# Altium footprint library PCB_motor_driver_v3.PcbLib: 20 footprints (part 1 of 2)
Each footprint in its own frame and in the unit in brackets; x right, y up, seen from the top. Pads: shape width x height; smd on the part's side, far side on the other; paste and mask are expansions set on the pad; w line width, h text height; cw(c..) or ccw(c..) is an arc to the next point about the centre after c.
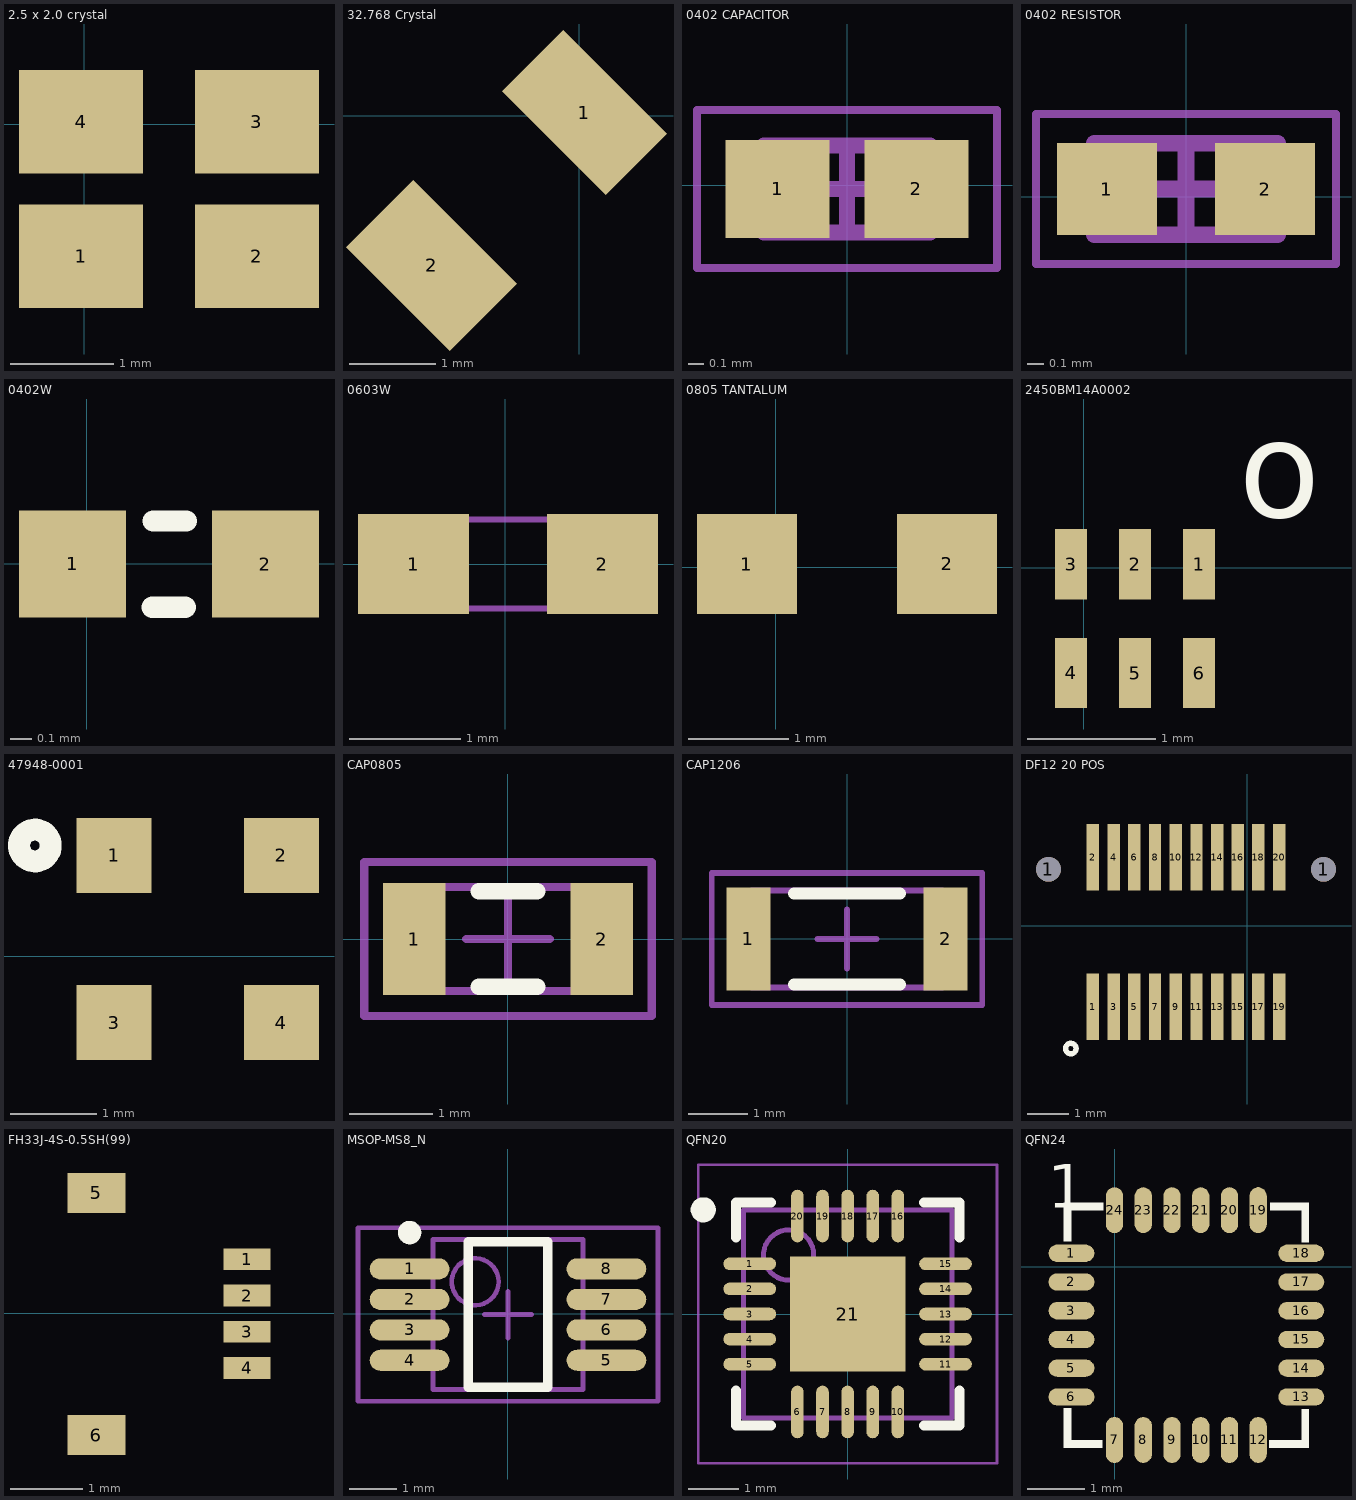
[diagram p0: the footprints below, top view; thin cyan lines are the x and y axes]

## 2.5 x 2.0 crystal [mm]
pads (4):
  rect 1.2x1 smd: 1(-0.033,-1.273) 2(1.667,-1.273) 3(1.667,0.026) 4(-0.033,0.025)
3D body: height 0.5, standoff 0, extent -0.458,-1.621 2.045,0.375

## 32.768 Crystal [mm]
pads (2):
  rect 1x1.7 smd rot 45: 1(0.063,0.036)
  rect 1.1x1.7 smd rot 45: 2(-1.705,-1.733)
3D body: height 0.9, standoff 0, extent -2.493,-2.544 0.83,0.779

## 0402 CAPACITOR [mm]
pads (2):
  rect 0.66x0.62 smd: 1(-0.441,-0.024) 2(0.439,-0.024)
Mechanical 13:
  lines w0.1: -0.526,-0.299 -0.526,0.251 0.524,0.251 0.524,-0.299 -0.526,-0.299
Mechanical 15:
  lines w0.05: -0.951,-0.524 -0.951,0.476 0.949,0.476 0.949,-0.524 -0.951,-0.524
  lines w0.1: -0.276,-0.024 0.274,-0.024 ; -0.001,-0.299 -0.001,0.251
3D body "0402 CAPACITOR.step": height 0.55, standoff 0, extent -0.526,-0.299 0.524,0.251

## 0402 RESISTOR [mm]
pads (2):
  rect 0.6x0.55 smd: 1(-0.476,0.046) 2(0.474,0.046)
Mechanical 13:
  lines w0.1: -0.551,-0.229 0.549,-0.229 0.549,0.321 -0.551,0.321 -0.551,-0.229
Mechanical 15:
  lines w0.05: -0.901,-0.404 0.899,-0.404 0.899,0.496 -0.901,0.496 -0.901,-0.404
  lines w0.1: -0.276,0.046 0.274,0.046 ; -0.001,-0.229 -0.001,0.321
3D body "0402 RESISTOR.step": height 0.4, standoff 0, extent -0.551,-0.229 0.549,0.321

## 0402W [mm]
pads (2):
  rect 0.5x0.5 smd: 1(-0.066,0) 2(0.834,-0.001)
Top Overlay:
  lines w0.1: 0.306,-0.203 0.461,-0.203 ; 0.31,0.2 0.464,0.2
3D body: height 0.2, standoff 0, extent -0.084,-0.25 0.85,0.249

## 0603W [mm]
pads (2):
  rect 1x0.9 smd: 1(-0.825,0) 2(0.875,0)
Mechanical 13:
  lines w0.051: -0.775,-0.4 -0.775,0.4 0.825,0.4 0.825,-0.4 -0.775,-0.4
3D body: height 0.8, standoff 0, extent -0.775,-0.4 0.825,0.4

## 0805 TANTALUM [mm]
pads (2):
  rect 1x1 smd: 1(-0.285,0.032) 2(1.716,0.032)
3D body: height 1.5, standoff 0, extent -0.284,-0.66 1.718,0.693

## 2450BM14A0002 [mm]
pads (6):
  rect 0.25x0.55 smd: 1(0.901,0.027) 2(0.401,0.027) 3(-0.1,0.028) 4(-0.1,-0.822) 5(0.401,-0.823) 6(0.901,-0.823)
Top Overlay:
  text "o" at 1.208,0.395 h0.76
3D body: height 0.6, standoff 0, extent -0.391,-0.783 1.209,0.019

## 47948-0001 [mm]
pads (4):
  rect 0.87x0.87 smd: 1(1.84,1.168) 2(3.78,1.168) 3(1.84,-0.772) 4(3.78,-0.772)
Top Overlay:
  circle w0.254: c0.922,1.282 r0.184
3D body "479480001.stp": height 4, standoff 0, extent 1.235,-1.374 4.375,1.766

## CAP0805 [mm]
pads (2):
  rect 0.75x1.35 smd: 1(-1.125,0) 2(1.125,0)
Top Overlay:
  lines w0.2: -0.35,-0.575 0.35,-0.575 ; -0.35,0.575 0.35,0.575
Mechanical 13:
  lines w0.1: -1.025,-0.625 -1.025,0.625 1.025,0.625 1.025,-0.625 -1.025,-0.625
Mechanical 15:
  lines w0.1: -0.5,0 0.5,0 ; 0,-0.5 0,0.5 ; -1.725,-0.925 -1.725,0.925 1.725,0.925 1.725,-0.925 -1.725,-0.925
3D body "CAP0805.stp": height 0.78, standoff 0, extent -1,-0.625 1,0.625

## CAP1206 [mm]
pads (2):
  rect 0.75x1.75 smd: 1(-1.675,0) 2(1.675,0)
Top Overlay:
  lines w0.2: -0.9,-0.775 0.9,-0.775 ; -0.9,0.775 0.9,0.775
Mechanical 13:
  lines w0.1: -1.625,-0.825 -1.625,0.825 1.625,0.825 1.625,-0.825 -1.625,-0.825
Mechanical 15:
  lines w0.1: -0.5,0 0.5,0 ; 0,-0.5 0,0.5 ; -2.3,-1.125 -2.3,1.125 2.3,1.125 2.3,-1.125 -2.3,-1.125
3D body "CAP1206.stp": height 1, standoff 0, extent -1.6,-0.8 1.6,0.8

## DF12 20 POS [mm]
pads (22):
  round 0.6 hole 0.6: 1(-4.801,1.366) 1(1.836,1.365)
  rect 0.3x1.6 smd mask+0.07: 1(-3.73,-1.947) 2(-3.73,1.653) 3(-3.229,-1.947) 4(-3.229,1.653) 5(-2.729,-1.947) 6(-2.729,1.653) 7(-2.23,-1.947) 8(-2.229,1.653) 9(-1.73,-1.947) 10(-1.73,1.653) 11(-1.23,-1.947) 12(-1.23,1.653) 13(-0.73,-1.947) 14(-0.73,1.653) 15(-0.236,-1.947) 16(-0.236,1.653) 17(0.264,-1.947) 18(0.265,1.653) 19(0.764,-1.947) 20(0.765,1.653)
Top Overlay:
  circle w0.127: c-4.259,-2.958 r0.127
3D body "DF12D(4.0)-20DP.stp": height 3.3, standoff -0.6, extent -5.119,-2.442 2.081,2.157

## FH33J-4S-0.5SH(99) [mm]
pads (6):
  rect 0.65x0.3 smd mask+0.05: 1(-3.141,0.743) 2(-3.141,0.242) 3(-3.141,-0.259) 4(-3.14,-0.758)
  rect 0.8x0.55 smd mask+0.05: 5(-5.223,1.661) 6(-5.224,-1.686)
3D body "FH33-4S-0.5SH.stp": height 1.2, standoff -0.02, extent -6.162,-2.012 -3.162,1.988

## MSOP-MS8_N [mm]
pads (8):
  oval 1.7x0.45 smd: 1(-2.091,0.958) 2(-2.091,0.308) 3(-2.091,-0.342) 4(-2.091,-0.992) 5(2.109,-0.992) 6(2.109,-0.342) 7(2.109,0.308) 8(2.109,0.958)
Top Overlay:
  circle w0.25: c-2.091,1.733 r0.125
  lines w0.2: -0.841,-1.567 -0.841,1.533 0.859,1.533 0.859,-1.567 -0.841,-1.567
Mechanical 13:
  circle w0.1: c-0.691,0.683 r0.5
  lines w0.1: -1.591,-1.617 -1.591,1.583 1.609,1.583 1.609,-1.617 -1.591,-1.617
Mechanical 15:
  lines w0.1: -0.491,-0.017 0.509,-0.017 ; 0.009,-0.517 0.009,0.483 ; -3.191,-1.867 -3.191,1.833 3.209,1.833 3.209,-1.867 -3.191,-1.867
3D body: height 1.1, standoff 0, extent -1.591,-1.617 1.609,1.583

## QFN20 [mm]
pads (21):
  oval 1.05x0.25 smd: 1(-1.95,1) 2(-1.95,0.5) 3(-1.95,0) 4(-1.95,-0.5) 5(-1.95,-1) 11(1.95,-1) 12(1.95,-0.5) 13(1.95,0) 14(1.95,0.5) 15(1.95,1)
  oval 0.25x1.05 smd: 6(-1,-1.95) 7(-0.5,-1.95) 8(0,-1.95) 9(0.5,-1.95) 10(1,-1.95) 16(1,1.95) 17(0.5,1.95) 18(0,1.95) 19(-0.5,1.95) 20(-1,1.95)
  rect 2.3x2.3 smd: 21(0,0)
Top Overlay:
  circle w0.25: c-2.875,2.075 r0.125
  lines w0.2: -2.225,-1.525 -2.225,-2.225 -1.525,-2.225 ; -2.225,1.525 -2.225,2.225 -1.525,2.225 ; 1.525,-2.225 2.225,-2.225 2.225,-1.525 ; 1.525,2.225 2.225,2.225 2.225,1.525
Mechanical 13:
  circle w0.1: c-1.175,1.175 r0.5
  lines w0.1: -2.075,-2.075 2.075,-2.075 2.075,2.075 -2.075,2.075 -2.075,-2.075
Mechanical 15:
  lines w0.05: -2.975,-2.975 2.975,-2.975 2.975,2.975 -2.975,2.975 -2.975,-2.975
  lines w0.1: -0.5,0 0.5,0 ; 0,-0.5 0,0.5
3D body: height 0.8, standoff 0.01, extent -2.075,-2.075 2.075,2.075

## QFN24 [mm]
pads (24):
  oval 0.8x0.3 smd mask+0.07: 1(-0.756,0.231) 2(-0.756,-0.269) 3(-0.756,-0.768) 4(-0.756,-1.268) 5(-0.756,-1.768) 6(-0.755,-2.268) 13(3.244,-2.268) 14(3.244,-1.768) 15(3.244,-1.269) 16(3.244,-0.769) 17(3.244,-0.269) 18(3.244,0.231)
  oval 0.3x0.8 smd mask+0.07: 7(-0.006,-3.018) 8(0.494,-3.018) 9(0.994,-3.018) 10(1.494,-3.018) 11(1.994,-3.018) 12(2.494,-3.018) 19(2.494,0.981) 20(1.994,0.981) 21(1.494,0.981) 22(0.994,0.981) 23(0.494,0.981) 24(-0.006,0.981)
Top Overlay:
  rectangle: -0.896,0.438 -0.757,1.097
  region: -0.2,0.979 -0.2,1.118 -0.896,1.118 -0.896,0.979
  rectangle: 3.243,0.42 3.382,1.117
  region: 2.702,1.117 2.702,0.978 3.361,0.978 3.361,1.117
  region: -0.217,-3.159 -0.217,-3.02 -0.876,-3.02 -0.876,-3.159
  region: -0.758,-2.463 -0.897,-2.463 -0.897,-3.159 -0.758,-3.159
  region: 2.686,-3.018 2.686,-3.157 3.382,-3.157 3.382,-3.018
  region: 3.382,-2.477 3.243,-2.477 3.243,-3.136 3.382,-3.136
  text "1" at -1.168,1.023 h0.76
3D body: height 1.1, standoff 0, extent -0.758,-3.021 3.243,0.979